# EAGLE library part AD9850 (library mylib)
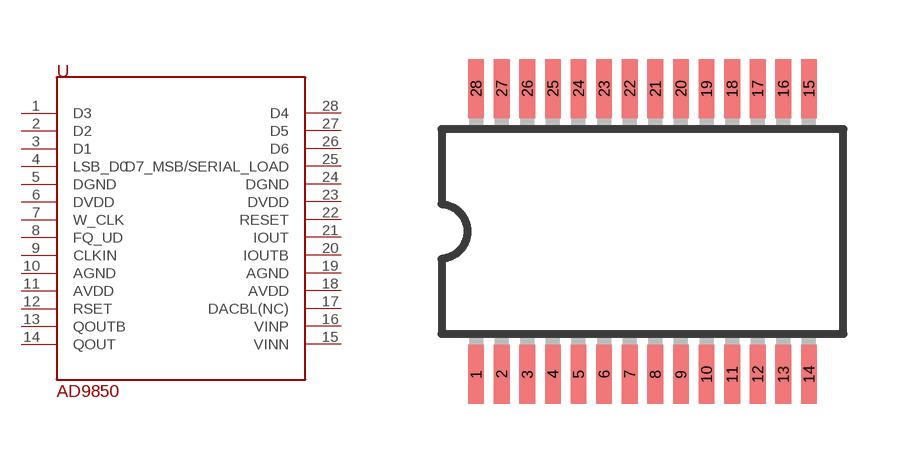
[diagram p18: symbol with the pads of SSOP28; footprint SSOP28]

Designator prefix -

## AD9850  [SSOP28]
1  D3
2  D2
3  D1
4  LSB_D0
5  DGND
6  DVDD
7  W_CLK
8  FQ_UD
9  CLKIN
10  AGND
11  AVDD
12  RSET
13  QOUTB
14  QOUT
15  VINN
16  VINP
17  DACBL(NC)
18  AVDD
19  AGND
20  IOUTB
21  IOUT
22  RESET
23  DVDD
24  DGND
25  D7_MSB/SERIAL_LOAD
26  D6
27  D5
28  D4

## Footprint SSOP28 (pad centres in mm)
28-Lead Shrink Small Outline Package SSOP (RS-28) Source: http://www.analog.com/UploadedFiles/Data_Sheets/39677768AD7714_c.pdf
smd 0.4 x 1.5: 1 -4.225,-3.625; 2 -3.575,-3.625; 3 -2.925,-3.625; 4 -2.275,-3.625; 5 -1.625,-3.625; 6 -0.975,-3.625; 7 -0.325,-3.625; 8 0.325,-3.625; 9 0.975,-3.625; 10 1.625,-3.625; 11 2.275,-3.625; 12 2.925,-3.625; 13 3.575,-3.625; 14 4.225,-3.625; 15 4.225,3.625; 16 3.575,3.625; 17 2.925,3.625; 18 2.275,3.625; 19 1.625,3.625; 20 0.975,3.625; 21 0.325,3.625; 22 -0.325,3.625; 23 -0.975,3.625; 24 -1.625,3.625; 25 -2.275,3.625; 26 -2.925,3.625; 27 -3.575,3.625; 28 -4.225,3.625